# EAGLE library part MAX1480* (library max1480-90)
MAX1480 Complete, Isolated RS485/RS422 Data Interface
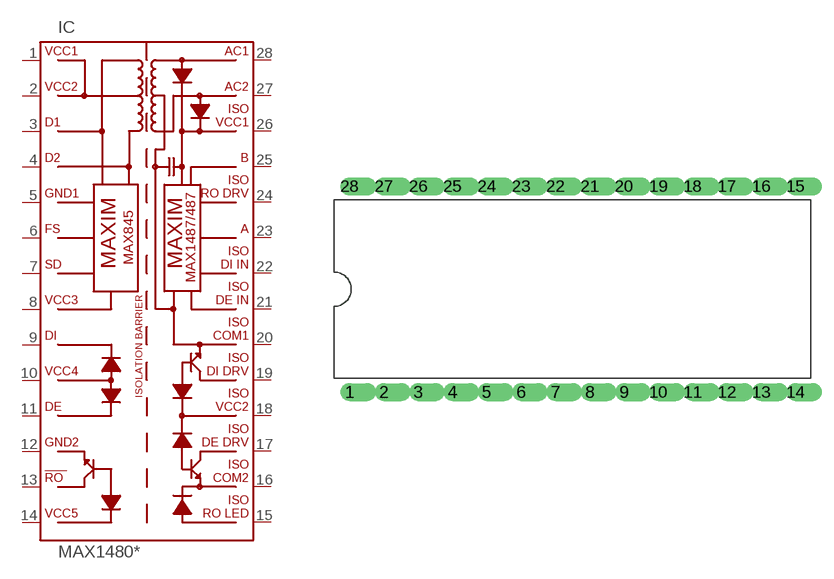
[diagram p0: symbol with the pads of DIP28W; footprint DIP28W]

Designator prefix IC

## MAX1480ACPI, MAX1480AEPI, MAX1480BCPI, MAX1480BEPI, MAX1480CCPI, MAX1480CEPI  [DIP28W]
1  VCC  pwr
2  VCC  pwr
3  D1
4  D2
5  GND  pwr
6  FS  in
7  SD  in
8  VCC  pwr
9  DI  in
10  VCC  pwr
11  DE  in
12  GND  pwr
13  RO/  out
14  VCC  pwr
15  ISOROLED  out
16  ISOCOM  pwr
17  ISODEDRV
18  ISOVCC  pwr
19  ISODIDRV
20  ISOCOM  pwr
21  ISODEIN
22  ISODIIN  in
23  A
24  IOSRODRV
25  B
26  ISOVCC  pwr
27  AC2  nc
28  AC1  nc

## Footprint DIP28W (pad centres in mm)
DIP28W
drill 0.813 offset: 1 -16.51,-7.62; 2 -13.97,-7.62; 3 -11.43,-7.62; 4 -8.89,-7.62; 5 -6.35,-7.62; 6 -3.81,-7.62; 7 -1.27,-7.62; 8 1.27,-7.62; 9 3.81,-7.62; 10 6.35,-7.62; 11 8.89,-7.62; 12 11.43,-7.62; 13 13.97,-7.62; 14 16.51,-7.62; 15 16.51,7.62; 16 13.97,7.62; 17 11.43,7.62; 18 8.89,7.62; 19 6.35,7.62; 20 3.81,7.62; 21 1.27,7.62; 22 -1.27,7.62; 23 -3.81,7.62; 24 -6.35,7.62; 25 -8.89,7.62; 26 -11.43,7.62; 27 -13.97,7.62; 28 -16.51,7.62